# EAGLE library part XCR3256XL/144 (library Xilinx)
CoolRunner XCR3256XL CPLD
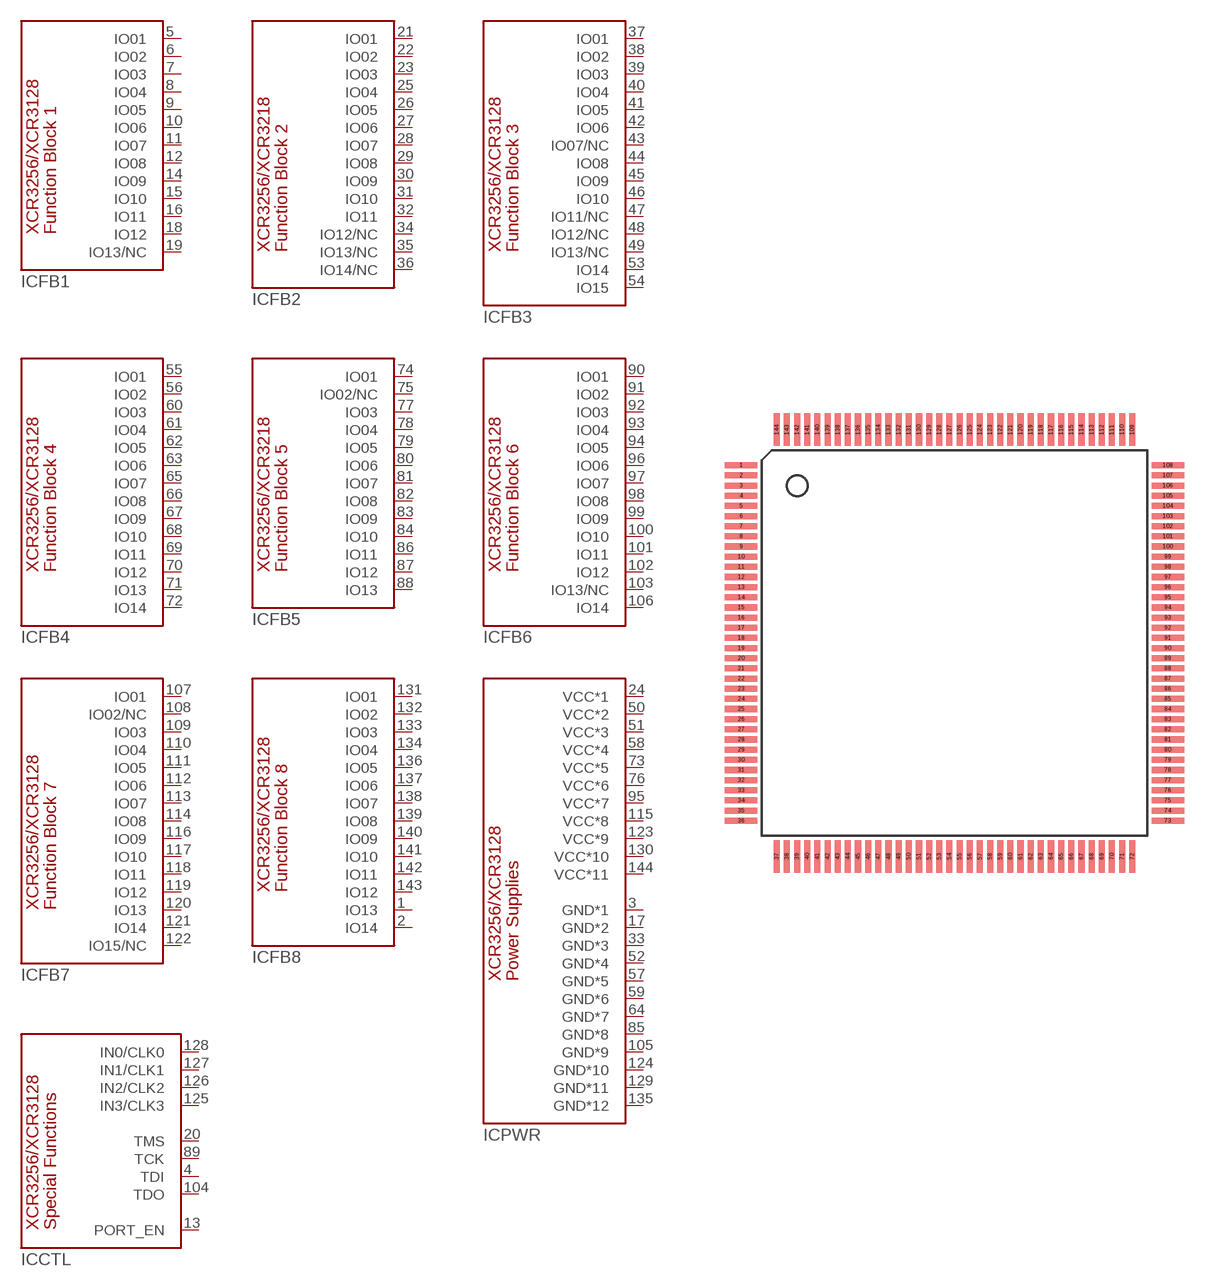
[diagram p14: symbol with the pads of TQ144; footprint TQ144]

Designator prefix IC; gates FB1=XCR3256/TQ144-FB1 FB2=XCR3256/TQ144-FB2 FB3=XCR3256/TQ144-FB3 FB4=XCR3256/TQ144-FB4 FB5=XCR3256/TQ144-FB5 FB6=XCR3256/TQ144-FB6 FB7=XCR3256/TQ144-FB7 FB8=XCR3256/TQ144-FB8 PWR=XCR3256/TQ144-PWR CTL=XCR3256/TQ144-CTL

## XCR3256XL/144-TQ144  [TQ144]
1  FB8:IO13
2  FB8:IO14
3  PWR:GND*1  pwr
4  CTL:TDI
5  FB1:IO01
6  FB1:IO02
7  FB1:IO03
8  FB1:IO04
9  FB1:IO05
10  FB1:IO06
11  FB1:IO07
12  FB1:IO08
13  CTL:PORT_EN
14  FB1:IO09
15  FB1:IO10
16  FB1:IO11
17  PWR:GND*2  pwr
18  FB1:IO12
19  FB1:IO13/NC
20  CTL:TMS
21  FB2:IO01
22  FB2:IO02
23  FB2:IO03
24  PWR:VCC*1  pwr
25  FB2:IO04
26  FB2:IO05
27  FB2:IO06
28  FB2:IO07
29  FB2:IO08
30  FB2:IO09
31  FB2:IO10
32  FB2:IO11
33  PWR:GND*3  pwr
34  FB2:IO12/NC
35  FB2:IO13/NC
36  FB2:IO14/NC
37  FB3:IO01
38  FB3:IO02
39  FB3:IO03
40  FB3:IO04
41  FB3:IO05
42  FB3:IO06
43  FB3:IO07/NC
44  FB3:IO08
45  FB3:IO09
46  FB3:IO10
47  FB3:IO11/NC
48  FB3:IO12/NC
49  FB3:IO13/NC
50  PWR:VCC*2  pwr
51  PWR:VCC*3  pwr
52  PWR:GND*4  pwr
53  FB3:IO14
54  FB3:IO15
55  FB4:IO01
56  FB4:IO02
57  PWR:GND*5  pwr
58  PWR:VCC*4  pwr
59  PWR:GND*6  pwr
60  FB4:IO03
61  FB4:IO04
62  FB4:IO05
63  FB4:IO06
64  PWR:GND*7  pwr
65  FB4:IO07
66  FB4:IO08
67  FB4:IO09
68  FB4:IO10
69  FB4:IO11
70  FB4:IO12
71  FB4:IO13
72  FB4:IO14
73  PWR:VCC*5  pwr
74  FB5:IO01
75  FB5:IO02/NC
76  PWR:VCC*6  pwr
77  FB5:IO03
78  FB5:IO04
79  FB5:IO05
80  FB5:IO06
81  FB5:IO07
82  FB5:IO08
83  FB5:IO09
84  FB5:IO10
85  PWR:GND*8  pwr
86  FB5:IO11
87  FB5:IO12
88  FB5:IO13
89  CTL:TCK
90  FB6:IO01
91  FB6:IO02
92  FB6:IO03
93  FB6:IO04
94  FB6:IO05
95  PWR:VCC*7  pwr
96  FB6:IO06
97  FB6:IO07
98  FB6:IO08
99  FB6:IO09
100  FB6:IO10
101  FB6:IO11
102  FB6:IO12
103  FB6:IO13/NC
104  CTL:TDO
105  PWR:GND*9  pwr
106  FB6:IO14
107  FB7:IO01
108  FB7:IO02/NC
109  FB7:IO03
110  FB7:IO04
111  FB7:IO05
112  FB7:IO06
113  FB7:IO07
114  FB7:IO08
115  PWR:VCC*8  pwr
116  FB7:IO09
117  FB7:IO10
118  FB7:IO11
119  FB7:IO12
120  FB7:IO13
121  FB7:IO14
122  FB7:IO15/NC
123  PWR:VCC*9  pwr
124  PWR:GND*10  pwr
125  CTL:IN3/CLK3
126  CTL:IN2/CLK2
127  CTL:IN1/CLK1
128  CTL:IN0/CLK0
129  PWR:GND*11  pwr
130  PWR:VCC*10  pwr
131  FB8:IO01
132  FB8:IO02
133  FB8:IO03
134  FB8:IO04
135  PWR:GND*12  pwr
136  FB8:IO05
137  FB8:IO06
138  FB8:IO07
139  FB8:IO08
140  FB8:IO09
141  FB8:IO10
142  FB8:IO11
143  FB8:IO12
144  PWR:VCC*11  pwr

## Footprint TQ144 (pad centres in mm)
smd 1.6 x 0.3: 1 -10.5,8.75; 2 -10.5,8.25; 3 -10.5,7.75; 4 -10.5,7.25; 5 -10.5,6.75; 6 -10.5,6.25; 7 -10.5,5.75; 8 -10.5,5.25; 9 -10.5,4.75; 10 -10.5,4.25; 11 -10.5,3.75; 12 -10.5,3.25; 13 -10.5,2.75; 14 -10.5,2.25; 15 -10.5,1.75; 16 -10.5,1.25; 17 -10.5,0.75; 18 -10.5,0.25; 19 -10.5,-0.25; 20 -10.5,-0.75; 21 -10.5,-1.25; 22 -10.5,-1.75; 23 -10.5,-2.25; 24 -10.5,-2.75; 25 -10.5,-3.25; 26 -10.5,-3.75; 27 -10.5,-4.25; 28 -10.5,-4.75; 29 -10.5,-5.25; 30 -10.5,-5.75; 31 -10.5,-6.25; 32 -10.5,-6.75; 33 -10.5,-7.25; 34 -10.5,-7.75; 35 -10.5,-8.25; 36 -10.5,-8.75; 73 10.5,-8.75; 74 10.5,-8.25; 75 10.5,-7.75; 76 10.5,-7.25; 77 10.5,-6.75; 78 10.5,-6.25; 79 10.5,-5.75; 80 10.5,-5.25; 81 10.5,-4.75; 82 10.5,-4.25; 83 10.5,-3.75; 84 10.5,-3.25; 85 10.5,-2.75; 86 10.5,-2.25; 87 10.5,-1.75; 88 10.5,-1.25; 89 10.5,-0.75; 90 10.5,-0.25; 91 10.5,0.25; 92 10.5,0.75; 93 10.5,1.25; 94 10.5,1.75; 95 10.5,2.25; 96 10.5,2.75; 97 10.5,3.25; 98 10.5,3.75; 99 10.5,4.25; 100 10.5,4.75; 101 10.5,5.25; 102 10.5,5.75; 103 10.5,6.25; 104 10.5,6.75; 105 10.5,7.25; 106 10.5,7.75; 107 10.5,8.25; 108 10.5,8.75
smd 0.3 x 1.6: 37 -8.75,-10.5; 38 -8.25,-10.5; 39 -7.75,-10.5; 40 -7.25,-10.5; 41 -6.75,-10.5; 42 -6.25,-10.5; 43 -5.75,-10.5; 44 -5.25,-10.5; 45 -4.75,-10.5; 46 -4.25,-10.5; 47 -3.75,-10.5; 48 -3.25,-10.5; 49 -2.75,-10.5; 50 -2.25,-10.5; 51 -1.75,-10.5; 52 -1.25,-10.5; 53 -0.75,-10.5; 54 -0.25,-10.5; 55 0.25,-10.5; 56 0.75,-10.5; 57 1.25,-10.5; 58 1.75,-10.5; 59 2.25,-10.5; 60 2.75,-10.5; 61 3.25,-10.5; 62 3.75,-10.5; 63 4.25,-10.5; 64 4.75,-10.5; 65 5.25,-10.5; 66 5.75,-10.5; 67 6.25,-10.5; 68 6.75,-10.5; 69 7.25,-10.5; 70 7.75,-10.5; 71 8.25,-10.5; 72 8.75,-10.5; 109 8.75,10.5; 110 8.25,10.5; 111 7.75,10.5; 112 7.25,10.5; 113 6.75,10.5; 114 6.25,10.5; 115 5.75,10.5; 116 5.25,10.5; 117 4.75,10.5; 118 4.25,10.5; 119 3.75,10.5; 120 3.25,10.5; 121 2.75,10.5; 122 2.25,10.5; 123 1.75,10.5; 124 1.25,10.5; 125 0.75,10.5; 126 0.25,10.5; 127 -0.25,10.5; 128 -0.75,10.5; 129 -1.25,10.5; 130 -1.75,10.5; 131 -2.25,10.5; 132 -2.75,10.5; 133 -3.25,10.5; 134 -3.75,10.5; 135 -4.25,10.5; 136 -4.75,10.5; 137 -5.25,10.5; 138 -5.75,10.5; 139 -6.25,10.5; 140 -6.75,10.5; 141 -7.25,10.5; 142 -7.75,10.5; 143 -8.25,10.5; 144 -8.75,10.5